# EAGLE library part IAM-20380 (library BBS_Library)
Gyroscope X (Pitch), Y (Roll), Z (Yaw) ±250, 500, 1000, 2000 27kHz I²C, SPI 16-LGA (3x3) VDD = 1.8V Datasheet <https://invensense.tdk.com/wp-content/uploads/2017/11/DS-000195-IAM-20380_v1.0-Typ.pdf?ref_disty=digikey>
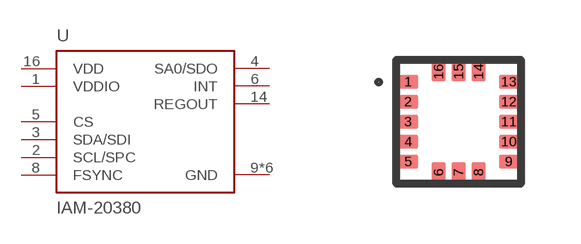
[diagram p7: symbol with the pads of PQFN50P300X300X80-16N; footprint PQFN50P300X300X80-16N]

Designator prefix U

## IAM-20380 (DKPN: 1428-1153-2-ND)  [PQFN50P300X300X80-16N]
1  VDDIO  pas
2  SCL/SPC  pas
3  SDA/SDI  pas
4  SA0/SDO  pas
5  CS  pas
6  INT  pas
8  FSYNC  pas
9  GND  pas
10  GND  pas
11  GND  pas
12  GND  pas
13  GND  pas
14  REGOUT  pas
15  GND  pas
16  VDD  pas

## Footprint PQFN50P300X300X80-16N (pad centres in mm)
Datasheet <https://invensense.tdk.com/wp-content/uploads/2017/11/DS-000195-IAM-20380_v1.0-Typ.pdf?ref_disty=digikey>
smd 0.49 x 0.35: 1 -1.26,1; 2 -1.26,0.5; 3 -1.26,0; 4 -1.26,-0.5; 5 -1.26,-1; 9 1.26,-1; 10 1.26,-0.5; 11 1.26,0; 12 1.26,0.5; 13 1.26,1
smd 0.35 x 0.49: 6 -0.5,-1.26; 7 0,-1.26; 8 0.5,-1.26; 14 0.5,1.26; 15 0,1.26; 16 -0.5,1.26